# Altium footprint library 691137710004.PcbLib: 1 footprints
Each footprint in its own frame and in the unit in brackets; x right, y up, seen from the top. Pads: shape width x height; smd on the part's side, far side on the other; paste and mask are expansions set on the pad; w line width, h text height; cw(c..) or ccw(c..) is an arc to the next point about the centre after c.
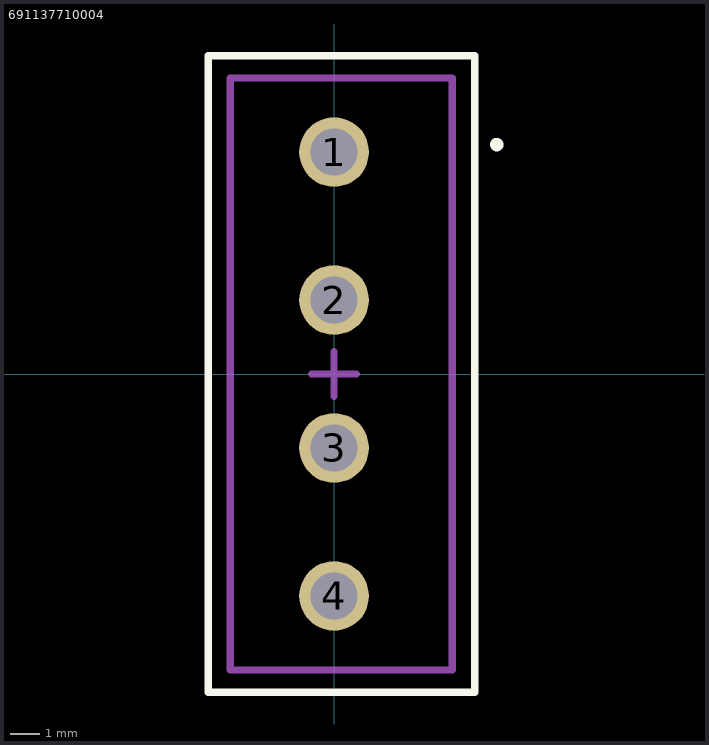
[diagram p0: the footprint, top view; thin cyan lines are the x and y axes]

## 691137710004 [mm]
pads (4):
  round 2.358 hole 1.6 mask+0.051: 1(0,7.5) 2(0,2.5) 3(0,-2.5) 4(0,-7.5)
Top Overlay:
  circle w0.254: c5.5,7.75 r0.1
  lines w0.25: -4.25,-10.75 4.75,-10.75 4.75,10.75 -4.25,10.75 -4.25,-10.75
Mechanical 13:
  lines w0.25: -3.5,-10 -3.5,10 4,10 4,-10 -3.5,-10
Mechanical 15:
  lines w0.25: -0.75,0 0,0 ; 0,-0.75 0,0 ; 0,0.75 0,0 ; 0.75,0 0,0
3D body "691137710004.STEP": height 11.6, standoff -3.6, extent -3.5,-10 4,10